# Altium schematic symbol library FGC12864.SchLib: 1 symbol
Pins are listed as number, name and electrical type; pins without a type are passive.

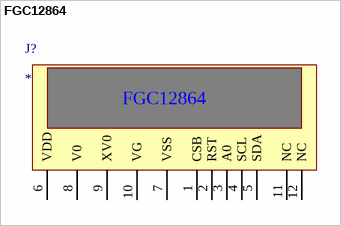
[diagram p0: symbol FGC12864]

## FGC12864
designator J?
pins: 1 CSB, 2 RST, 3 A0, 4 SCL, 5 SDA, 6 VDD, 7 VSS, 8 V0, 9 XV0, 10 VG, 11 NC, 12 NC